# EAGLE library part RM5* (library EW_Electro_Mechanical)
Power Relay SCHRACK 2 pole 16 A, DC- or AC-coil Source: http://www.schrack.com/.. 5832.pdf
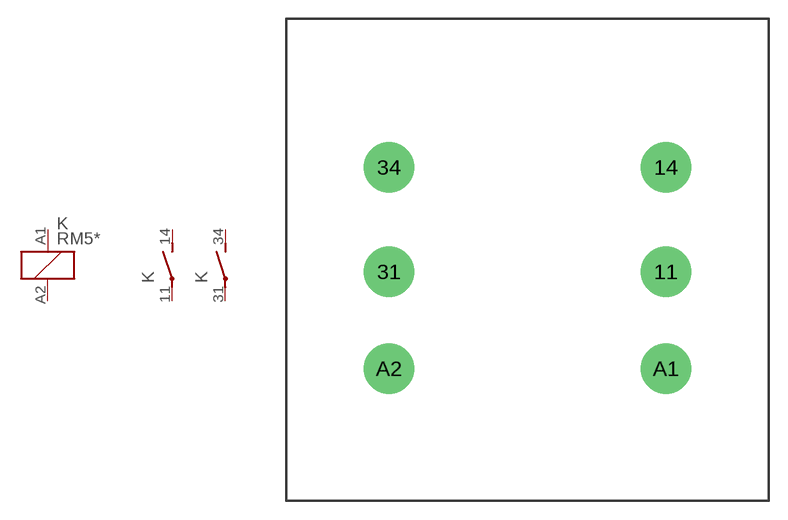
[diagram p85: symbol with the pads of RM-6; footprint RM-6]

Designator prefix K; gates 1=K-86 2=S-34 3=S-34

## RM507506 (OC_FARNELL: unknown; OC_NEWARK: unknown), RM507512 (OC_FARNELL: unknown; OC_NEWARK: unknown), RM507524 (OC_FARNELL: unknown; OC_NEWARK: unknown), RM507548 (OC_FARNELL: unknown; OC_NEWARK: unknown), RM507560 (OC_FARNELL: unknown; OC_NEWARK: unknown), RM507615 (OC_FARNELL: unknown; OC_NEWARK: unknown), RM507730 (OC_FARNELL: unknown; OC_NEWARK: unknown), RM507900 (OC_FARNELL: unknown; OC_NEWARK: unknown), RM507R06 (OC_FARNELL: unknown; OC_NEWARK: unknown), RM507R12 (OC_FARNELL: unknown; OC_NEWARK: unknown), RM507R24 (OC_FARNELL: unknown; OC_NEWARK: unknown), RM507R48 (OC_FARNELL: unknown; OC_NEWARK: unknown), RM507R60 (OC_FARNELL: unknown; OC_NEWARK: unknown), RM507S15 (OC_FARNELL: unknown; OC_NEWARK: unknown), RM507T30 (OC_FARNELL: unknown; OC_NEWARK: unknown), RM507V00 (OC_FARNELL: unknown; OC_NEWARK: unknown)  [RM-6]
11  2:P  pas
14  2:S  pas
31  3:P  pas
34  3:S  pas
A1  1:1  pas
A2  1:2  pas

## Footprint RM-6 (pad centres in mm)
Power Relay SCHRACK 2 pole 16 A, DC- or AC-coil Source: http://www.schrack.com/.. 5832.pdf
drill 2 pad 4: 11 11,-0.95; 14 11,7.35; 31 -11,-0.95; 34 -11,7.35; A1 11,-8.65; A2 -11,-8.65